# Altium footprint library RCID.PcbLib: 104 footprints (part 4 of 7)
Each footprint in its own frame and in the unit in brackets; x right, y up, seen from the top. Pads: shape width x height; smd on the part's side, far side on the other; paste and mask are expansions set on the pad; w line width, h text height; cw(c..) or ccw(c..) is an arc to the next point about the centre after c.
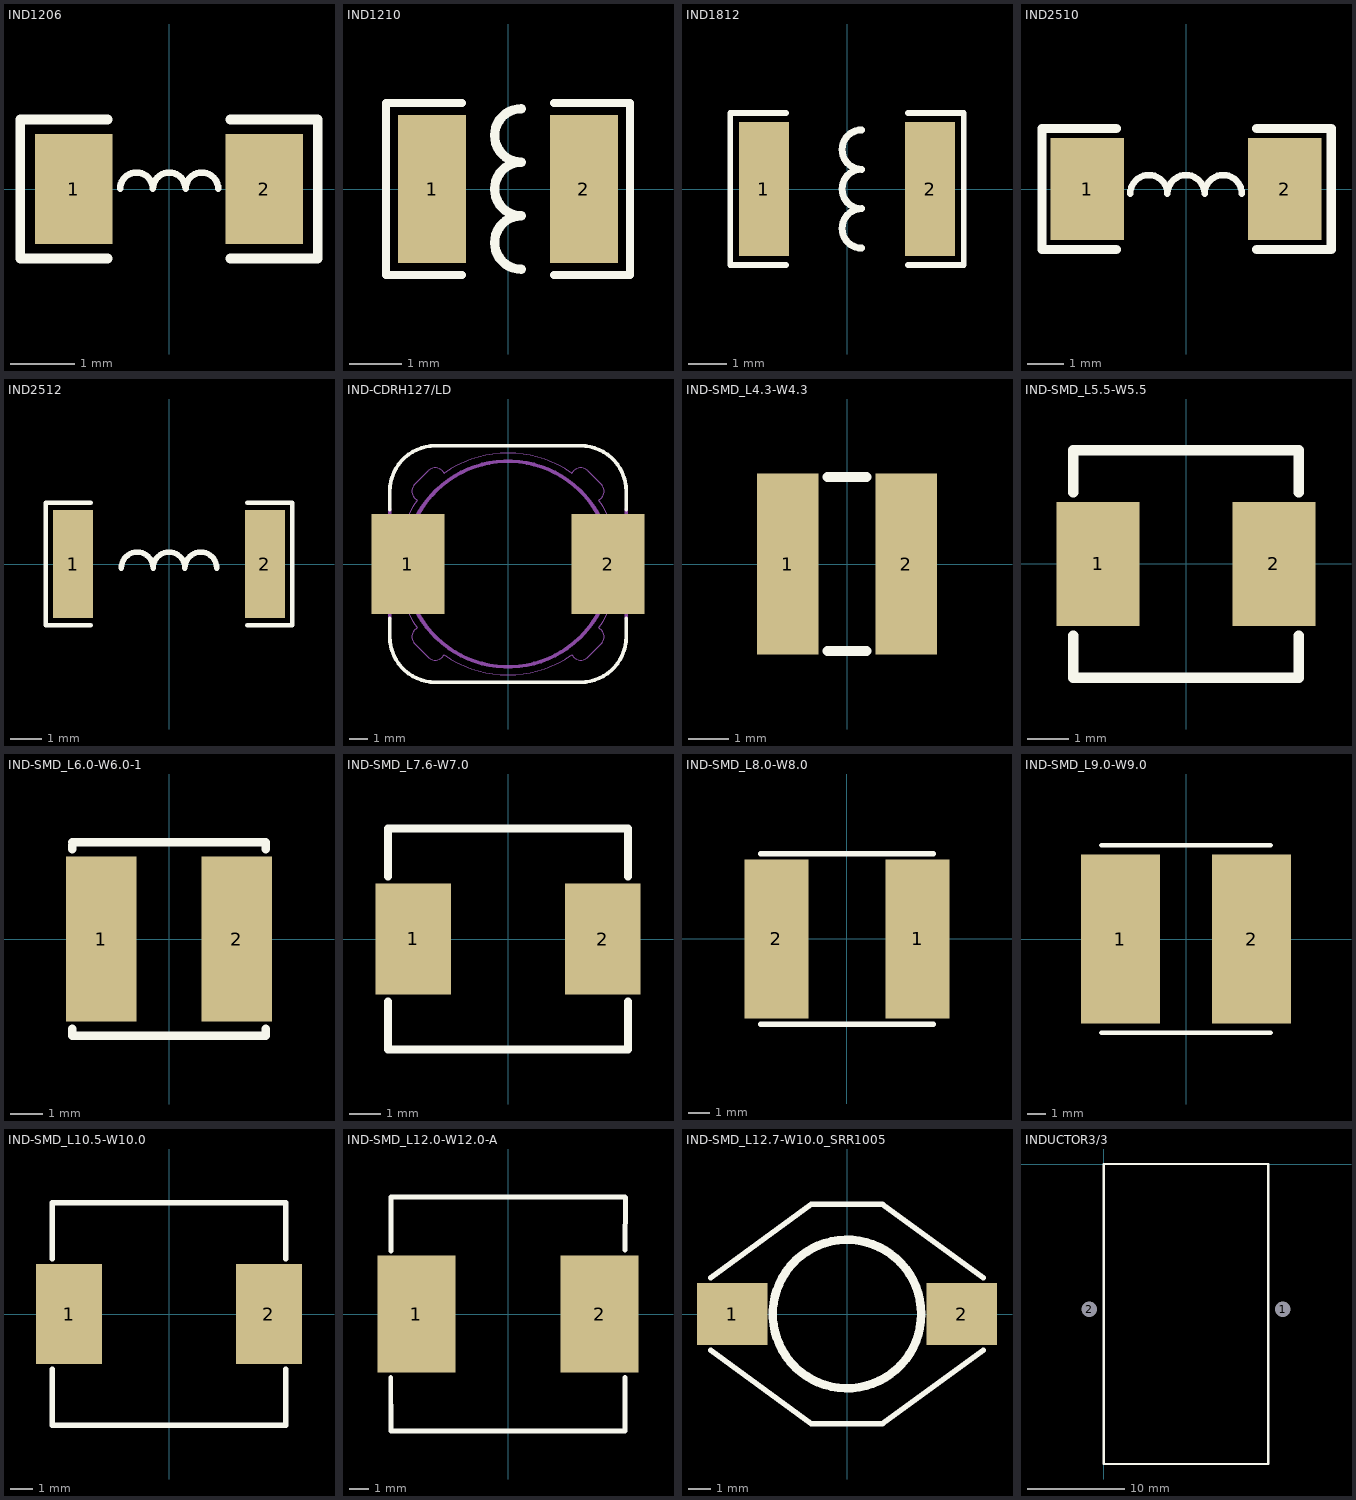
[diagram p3: the footprints below, top view; thin cyan lines are the x and y axes]

## IND1206 [mm]
pads (2):
  rect 1.208x1.701 smd paste-100 mask+0.051: 1(-1.479,0) 2(1.479,0)
Top Overlay:
  lines w0.102: -0.759,0.002 cw(c-0.505,0.002) -0.505,0.256 cw(c-0.505,0.002) -0.251,0.002 cw(c0.003,0.002) 0.003,0.256 cw(c0.003,0.002) 0.257,0.002 cw(c0.511,0.002) 0.511,0.256 cw(c0.511,0.002) 0.765,0.002
  lines w0.152: -0.951,-1.079 -2.311,-1.079 -2.311,1.079 -0.951,1.079 ; 0.951,-1.079 2.311,-1.079 2.311,1.079 0.951,1.079
Top Paste:
  region: -0.875,-0.75 -0.875,-0.389 -0.975,-0.289 -1.186,-0.289 -1.286,-0.189 -1.286,0.189 -1.186,0.289 -0.975,0.289 -0.875,0.389 -0.875,0.75 -0.975,0.85 -1.983,0.85 -2.083,0.75 -2.083,-0.75 -1.983,-0.85 -0.975,-0.85
  region: 0.875,-0.75 0.875,-0.389 0.975,-0.289 1.186,-0.289 1.286,-0.189 1.286,0.189 1.186,0.289 0.975,0.289 0.875,0.389 0.875,0.75 0.975,0.85 1.983,0.85 2.083,0.75 2.083,-0.75 1.983,-0.85 0.975,-0.85

## IND1210 [mm]
pads (2):
  rect 1.283x2.808 smd paste-100 mask+0.051: 1(-1.441,0) 2(1.441,0)
Top Overlay:
  lines w0.152: -0.876,-1.633 -2.311,-1.633 -2.311,1.633 -0.876,1.633 ; 0.876,-1.633 2.311,-1.633 2.311,1.633 0.876,1.633
  lines w0.178: 0.254,-1.524 cw(c0.254,-1.016) -0.254,-1.016 cw(c0.254,-1.016) 0.254,-0.508 cw(c0.254,0) -0.254,0 cw(c0.254,0) 0.254,0.508 cw(c0.254,1.016) -0.254,1.016 cw(c0.254,1.016) 0.254,1.524
Top Paste:
  region: -0.8,-1.304 -0.8,-0.577 -0.9,-0.477 -1.136,-0.477 -1.236,-0.377 -1.236,0.377 -1.136,0.477 -0.9,0.477 -0.8,0.577 -0.8,1.304 -0.9,1.404 -1.983,1.404 -2.083,1.304 -2.083,-1.304 -1.983,-1.404 -0.9,-1.404
  region: 0.8,-1.304 0.8,-0.577 0.9,-0.477 1.136,-0.477 1.236,-0.377 1.236,0.377 1.136,0.477 0.9,0.477 0.8,0.577 0.8,1.304 0.9,1.404 1.983,1.404 2.083,1.304 2.083,-1.304 1.983,-1.404 0.9,-1.404

## IND1812 [mm]
pads (2):
  rect 1.283x3.456 smd paste-100 mask+0.051: 1(-2.141,0) 2(2.141,0)
Top Overlay:
  lines w0.152: -1.576,-1.957 -3.011,-1.957 -3.011,1.957 -1.576,1.957 ; 1.576,-1.957 3.011,-1.957 3.011,1.957 1.576,1.957
  lines w0.178: 0.381,-1.524 cw(c0.381,-1.016) -0.127,-1.016 cw(c0.381,-1.016) 0.381,-0.508 cw(c0.381,0) -0.127,0 cw(c0.381,0) 0.381,0.508 cw(c0.381,1.016) -0.127,1.016 cw(c0.381,1.016) 0.381,1.524
Top Paste:
  region: 1.5,-1.628 1.5,-0.688 1.6,-0.588 1.836,-0.588 1.936,-0.488 1.936,0.488 1.836,0.588 1.6,0.588 1.5,0.688 1.5,1.628 1.6,1.728 2.683,1.728 2.783,1.628 2.783,-1.628 2.683,-1.728 1.6,-1.728
  region: -1.5,-1.628 -1.5,-0.688 -1.6,-0.588 -1.836,-0.588 -1.936,-0.488 -1.936,0.488 -1.836,0.588 -1.6,0.588 -1.5,0.688 -1.5,1.628 -1.6,1.728 -2.683,1.728 -2.783,1.628 -2.783,-1.628 -2.683,-1.728 -1.6,-1.728

## IND2510 [mm]
pads (2):
  rect 2x2.8 smd paste+0 mask+0.05: 1(-2.7,0) 2(2.7,0)
Top Overlay:
  lines w0.178: -1.524,-0.127 cw(c-1.016,-0.127) -1.016,0.381 cw(c-1.016,-0.127) -0.508,-0.127 cw(c0,-0.127) 0,0.381 cw(c0,-0.127) 0.508,-0.127 cw(c1.016,-0.127) 1.016,0.381 cw(c1.016,-0.127) 1.524,-0.127
  lines w0.254: -1.905,-1.651 -3.937,-1.651 -3.937,1.651 -1.905,1.651 ; 1.936,-1.651 3.968,-1.651 3.968,1.651 1.936,1.651

## IND2512 [mm]
pads (2):
  rect 1.283x3.456 smd paste-100 mask+0.051: 1(-3.066,0) 2(3.066,0)
Top Overlay:
  lines w0.152: -2.501,-1.957 -3.936,-1.957 -3.936,1.957 -2.501,1.957 ; 2.501,-1.957 3.936,-1.957 3.936,1.957 2.501,1.957
  lines w0.178: -1.524,-0.127 cw(c-1.016,-0.127) -1.016,0.381 cw(c-1.016,-0.127) -0.508,-0.127 cw(c0,-0.127) 0,0.381 cw(c0,-0.127) 0.508,-0.127 cw(c1.016,-0.127) 1.016,0.381 cw(c1.016,-0.127) 1.524,-0.127
Top Paste:
  region: 2.425,-1.628 2.425,-0.688 2.525,-0.588 2.761,-0.588 2.861,-0.488 2.861,0.488 2.761,0.588 2.525,0.588 2.425,0.688 2.425,1.628 2.525,1.728 3.608,1.728 3.708,1.628 3.708,-1.628 3.608,-1.728 2.525,-1.728
  region: -2.425,-1.628 -2.425,-0.688 -2.525,-0.588 -2.761,-0.588 -2.861,-0.488 -2.861,0.488 -2.761,0.588 -2.525,0.588 -2.425,0.688 -2.425,1.628 -2.525,1.728 -3.608,1.728 -3.708,1.628 -3.708,-1.628 -3.608,-1.728 -2.525,-1.728

## IND-CDRH127/LD [mm]
pads (2):
  rect 4x5.5 smd paste+0 mask+0.051: 1(-5.5,0) 2(5.5,0)
Top Overlay:
  lines w0.203: -6.5,-3 -6.5,-4 ccw(c-4,-4) -4,-6.5 4,-6.5 ccw(c4,-4) 6.5,-4 6.5,-3 ; -6.5,3 -6.5,4 cw(c-4,4) -4,6.5 4,6.5 cw(c4,4) 6.5,4 6.5,3
Mechanical 15:
  lines w0.051: -5.146,-4.354 cw(c-4.793,-4) -5.146,-3.646 -5,-3.5 cw(c0,0) -5,3.5 -5.146,3.646 cw(c-4.793,4) -5.146,4.354 -4.354,5.146 cw(c-4,4.793) -3.646,5.146 -3.5,5 cw(c0,0) 3.5,5 3.646,5.146 cw(c4,4.793) 4.354,5.146 5.146,4.354 cw(c4.793,4) 5.146,3.646 5,3.5 cw(c0,0) 5,-3.5 5.146,-3.646 cw(c4.793,-4) 5.146,-4.354 4.354,-5.146 cw(c4,-4.793) 3.646,-5.146 3.5,-5 cw(c0,0) -3.5,-5 -3.646,-5.146 cw(c-4,-4.793) -4.354,-5.146 -5.146,-4.354
  lines w0.203: -6.5,-3 -6.5,3 ; 5.657,-0.006 cw(c0,-0.003) 5.657,0 ; 6.5,-3 6.5,3

## IND-SMD_L4.3-W4.3 [mm]
pads (2):
  rect 1.524x4.5 smd paste+0 mask+0.05: 1(-1.47,0) 2(1.47,0)
Top Overlay:
  lines w0.254: -0.477,-2.159 0.477,-2.159 ; -0.477,2.159 0.477,2.159

## IND-SMD_L5.5-W5.5 [mm]
pads (2):
  rect 2x3 smd paste+0 mask+0.05: 1(-2.125,0) 2(2.125,0)
Top Overlay:
  lines w0.254: -2.72,-1.731 -2.72,-2.75 2.72,-2.75 2.72,-1.731 ; -2.72,1.731 -2.72,2.75 2.72,2.75 2.72,1.731

## IND-SMD_L6.0-W6.0-1 [mm]
pads (2):
  rect 2.2x5.1 smd paste+0 mask+0.051: 1(-2.1,0) 2(2.1,0)
Top Overlay:
  lines w0.254: -3,-2.781 -3,-3 3,-3 3,-2.781 ; -3,2.781 -3,2.9 ; -3,3 3,3 3,2.781

## IND-SMD_L7.6-W7.0 [mm]
pads (2):
  rect 2.4x3.5 smd paste+0 mask+0.051: 1(-3,0) 2(3,0)
Top Overlay:
  lines w0.254: -3.8,-1.981 -3.8,-3.5 3.8,-3.5 3.8,-1.981 ; -3.8,1.981 -3.8,3.5 3.8,3.5 3.8,1.981

## IND-SMD_L8.0-W8.0 [mm]
pads (2):
  rect 3.024x7.5 smd paste+0 mask+0.051: 1(3.328,0) 2(-3.328,0)
Top Overlay:
  lines w0.254: -4.076,-4.018 4.076,-4.018 ; -4.076,4.018 4.076,4.018

## IND-SMD_L9.0-W9.0 [mm]
pads (2):
  rect 4.2x9 smd paste+0 mask+0.051: 1(-3.5,0) 2(3.5,0)
Top Overlay:
  lines w0.254: -4.5,-5 4.5,-5 ; -4.5,5 4.5,5

## IND-SMD_L10.5-W10.0 [mm]
pads (2):
  rect 2.95x4.5 smd paste+0 mask+0.051: 1(-4.5,0) 2(4.5,0)
Top Overlay:
  lines w0.254: -5.25,-2.481 -5.25,-5 5.25,-5 5.25,-2.481 ; -5.25,2.481 -5.25,5 5.25,5 5.25,2.481

## IND-SMD_L12.0-W12.0-A [mm]
pads (2):
  rect 4x6 smd paste+0 mask+0.051: 1(-4.7,0) 2(4.7,0)
Top Overlay:
  lines w0.254: -6.019,-3.258 -6,-6 6,-6 6.006,-3.258 ; -6.008,3.22 -6,6 6,6 ; 6.009,3.282 6.027,5.98

## IND-SMD_L12.7-W10.0_SRR1005 [mm]
pads (2):
  rect 3.2x2.835 smd paste+0 mask+0.051: 1(-5.227,0) 2(5.227,0)
Top Overlay:
  circle w0.387: c0,0 r3.378
  lines w0.254: -6.203,-1.648 -1.626,-4.999 1.615,-4.999 6.203,-1.648 ; -6.203,1.648 -1.626,4.999 1.615,4.999 6.203,1.648

## INDUCTOR3/3 [mil]
pads (2):
  round 60 hole 62.99 paste-99999 mask+19.68: 1(728.35,-590.55) 2(-59.05,-590.55)
Top Overlay:
  lines w10: 0,-1220.47 0,0 669.29,0 669.29,-1220.47 0,-1220.47